# Altium schematic symbol library SCH - MCU - ATMEGA - MICROCHIP ATXMEGA128B1-CU VFBGA100.SchLib: 1 symbol
Pins are listed as number, name and electrical type; pins without a type are passive.

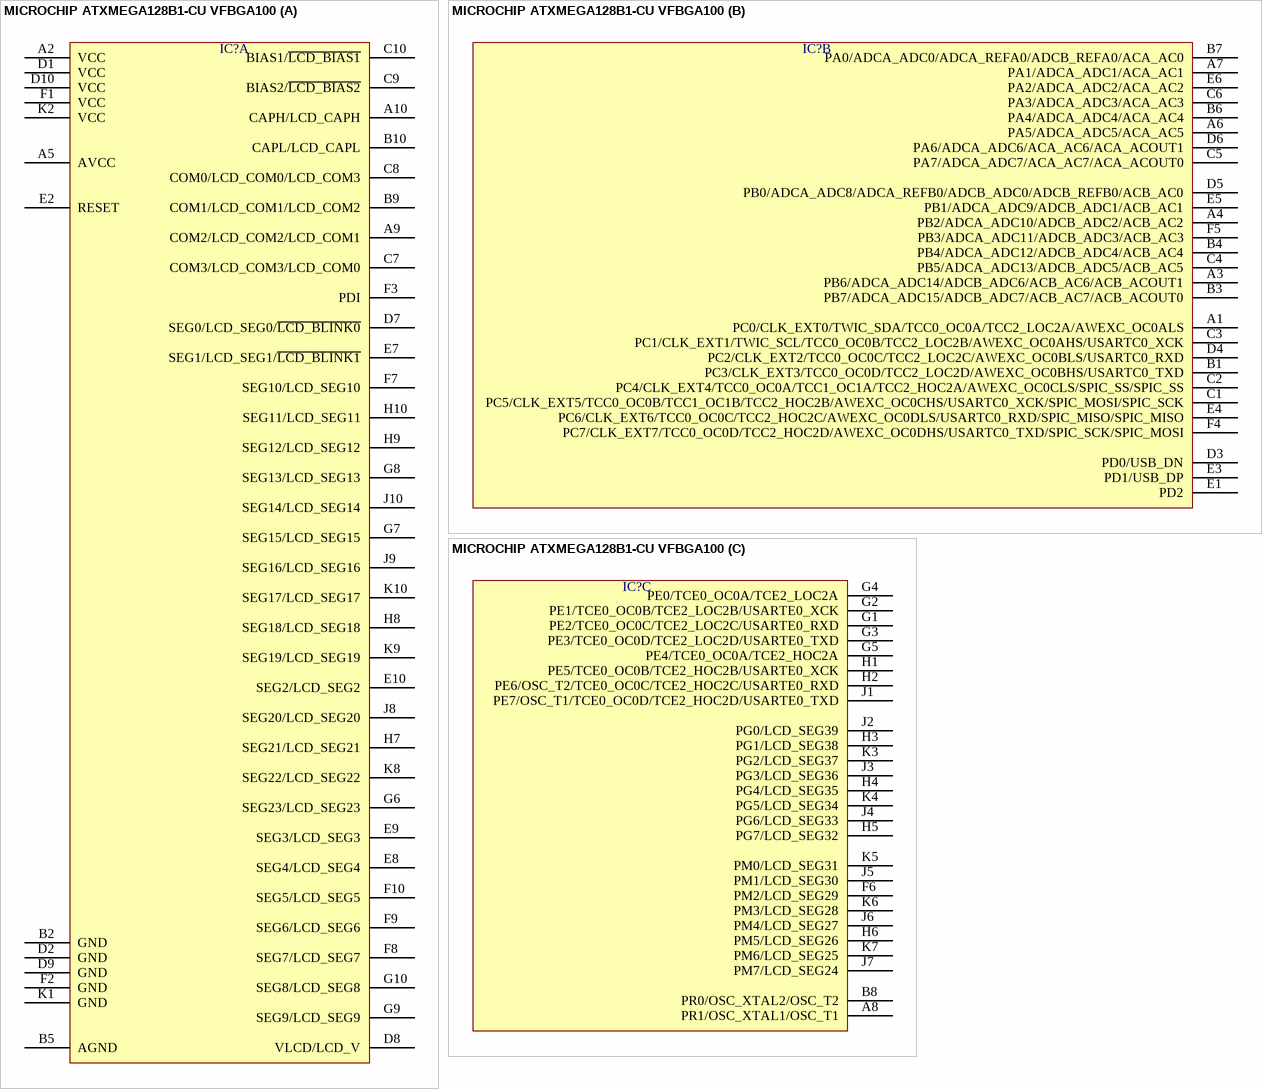
[diagram p0: symbol MICROCHIP ATXMEGA128B1-CU VFBGA100]

## MICROCHIP ATXMEGA128B1-CU VFBGA100
designator IC?  (value not drawn)
part A pins: A2 VCC, A5 AVCC, A9 COM2/LCD_COM2/LCD_COM1, A10 CAPH/LCD_CAPH, B2 GND, B5 AGND, B9 COM1/LCD_COM1/LCD_COM2, B10 CAPL/LCD_CAPL, C7 COM3/LCD_COM3/LCD_COM0, C8 COM0/LCD_COM0/LCD_COM3, C9 BIAS2/~{LCD_BIAS2}, C10 BIAS1/~{LCD_BIAS1}, D1 VCC, D2 GND, D7 SEG0/LCD_SEG0/~{LCD_BLINK0}, D8 VLCD/LCD_V, D9 GND, D10 VCC, E2 RESET, E7 SEG1/LCD_SEG1/~{LCD_BLINK1}, E8 SEG4/LCD_SEG4, E9 SEG3/LCD_SEG3, E10 SEG2/LCD_SEG2, F1 VCC, F2 GND, F3 PDI, F7 SEG10/LCD_SEG10, F8 SEG7/LCD_SEG7, F9 SEG6/LCD_SEG6, F10 SEG5/LCD_SEG5, G6 SEG23/LCD_SEG23, G7 SEG15/LCD_SEG15, G8 SEG13/LCD_SEG13, G9 SEG9/LCD_SEG9, G10 SEG8/LCD_SEG8, H7 SEG21/LCD_SEG21, H8 SEG18/LCD_SEG18, H9 SEG12/LCD_SEG12, H10 SEG11/LCD_SEG11, J8 SEG20/LCD_SEG20, J9 SEG16/LCD_SEG16, J10 SEG14/LCD_SEG14, K1 GND, K2 VCC, K8 SEG22/LCD_SEG22, K9 SEG19/LCD_SEG19, K10 SEG17/LCD_SEG17
part B pins: A1 PC0/CLK_EXT0/TWIC_SDA/TCC0_OC0A/TCC2_LOC2A/AWEXC_OC0ALS, A3 PB6/ADCA_ADC14/ADCB_ADC6/ACB_AC6/ACB_ACOUT1, A4 PB2/ADCA_ADC10/ADCB_ADC2/ACB_AC2, A6 PA5/ADCA_ADC5/ACA_AC5, A7 PA1/ADCA_ADC1/ACA_AC1, B1 PC3/CLK_EXT3/TCC0_OC0D/TCC2_LOC2D/AWEXC_OC0BHS/USARTC0_TXD, B3 PB7/ADCA_ADC15/ADCB_ADC7/ACB_AC7/ACB_ACOUT0, B4 PB4/ADCA_ADC12/ADCB_ADC4/ACB_AC4, B6 PA4/ADCA_ADC4/ACA_AC4, B7 PA0/ADCA_ADC0/ADCA_REFA0/ADCB_REFA0/ACA_AC0, C1 PC5/CLK_EXT5/TCC0_OC0B/TCC1_OC1B/TCC2_HOC2B/AWEXC_OC0CHS/USARTC0_XCK/SPIC_MOSI/SPIC_SCK, C2 PC4/CLK_EXT4/TCC0_OC0A/TCC1_OC1A/TCC2_HOC2A/AWEXC_OC0CLS/SPIC_SS/SPIC_SS, C3 PC1/CLK_EXT1/TWIC_SCL/TCC0_OC0B/TCC2_LOC2B/AWEXC_OC0AHS/USARTC0_XCK, C4 PB5/ADCA_ADC13/ADCB_ADC5/ACB_AC5, C5 PA7/ADCA_ADC7/ACA_AC7/ACA_ACOUT0, C6 PA3/ADCA_ADC3/ACA_AC3, D3 PD0/USB_DN, D4 PC2/CLK_EXT2/TCC0_OC0C/TCC2_LOC2C/AWEXC_OC0BLS/USARTC0_RXD, D5 PB0/ADCA_ADC8/ADCA_REFB0/ADCB_ADC0/ADCB_REFB0/ACB_AC0, D6 PA6/ADCA_ADC6/ACA_AC6/ACA_ACOUT1, E1 PD2, E3 PD1/USB_DP, E4 PC6/CLK_EXT6/TCC0_OC0C/TCC2_HOC2C/AWEXC_OC0DLS/USARTC0_RXD/SPIC_MISO/SPIC_MISO, E5 PB1/ADCA_ADC9/ADCB_ADC1/ACB_AC1, E6 PA2/ADCA_ADC2/ACA_AC2, F4 PC7/CLK_EXT7/TCC0_OC0D/TCC2_HOC2D/AWEXC_OC0DHS/USARTC0_TXD/SPIC_SCK/SPIC_MOSI, F5 PB3/ADCA_ADC11/ADCB_ADC3/ACB_AC3
part C pins: A8 PR1/OSC_XTAL1/OSC_T1, B8 PR0/OSC_XTAL2/OSC_T2, F6 PM2/LCD_SEG29, G1 PE2/TCE0_OC0C/TCE2_LOC2C/USARTE0_RXD, G2 PE1/TCE0_OC0B/TCE2_LOC2B/USARTE0_XCK, G3 PE3/TCE0_OC0D/TCE2_LOC2D/USARTE0_TXD, G4 PE0/TCE0_OC0A/TCE2_LOC2A, G5 PE4/TCE0_OC0A/TCE2_HOC2A, H1 PE5/TCE0_OC0B/TCE2_HOC2B/USARTE0_XCK, H2 PE6/OSC_T2/TCE0_OC0C/TCE2_HOC2C/USARTE0_RXD, H3 PG1/LCD_SEG38, H4 PG4/LCD_SEG35, H5 PG7/LCD_SEG32, H6 PM5/LCD_SEG26, J1 PE7/OSC_T1/TCE0_OC0D/TCE2_HOC2D/USARTE0_TXD, J2 PG0/LCD_SEG39, J3 PG3/LCD_SEG36, J4 PG6/LCD_SEG33, J5 PM1/LCD_SEG30, J6 PM4/LCD_SEG27, J7 PM7/LCD_SEG24, K3 PG2/LCD_SEG37, K4 PG5/LCD_SEG34, K5 PM0/LCD_SEG31, K6 PM3/LCD_SEG28, K7 PM6/LCD_SEG25